# Altium footprint library 00SMD-R-C-L-Q.PCBLIB: 64 footprints (part 3 of 4)
Each footprint in its own frame and in the unit in brackets; x right, y up, seen from the top. Pads: shape width x height; smd on the part's side, far side on the other; paste and mask are expansions set on the pad; w line width, h text height; cw(c..) or ccw(c..) is an arc to the next point about the centre after c.
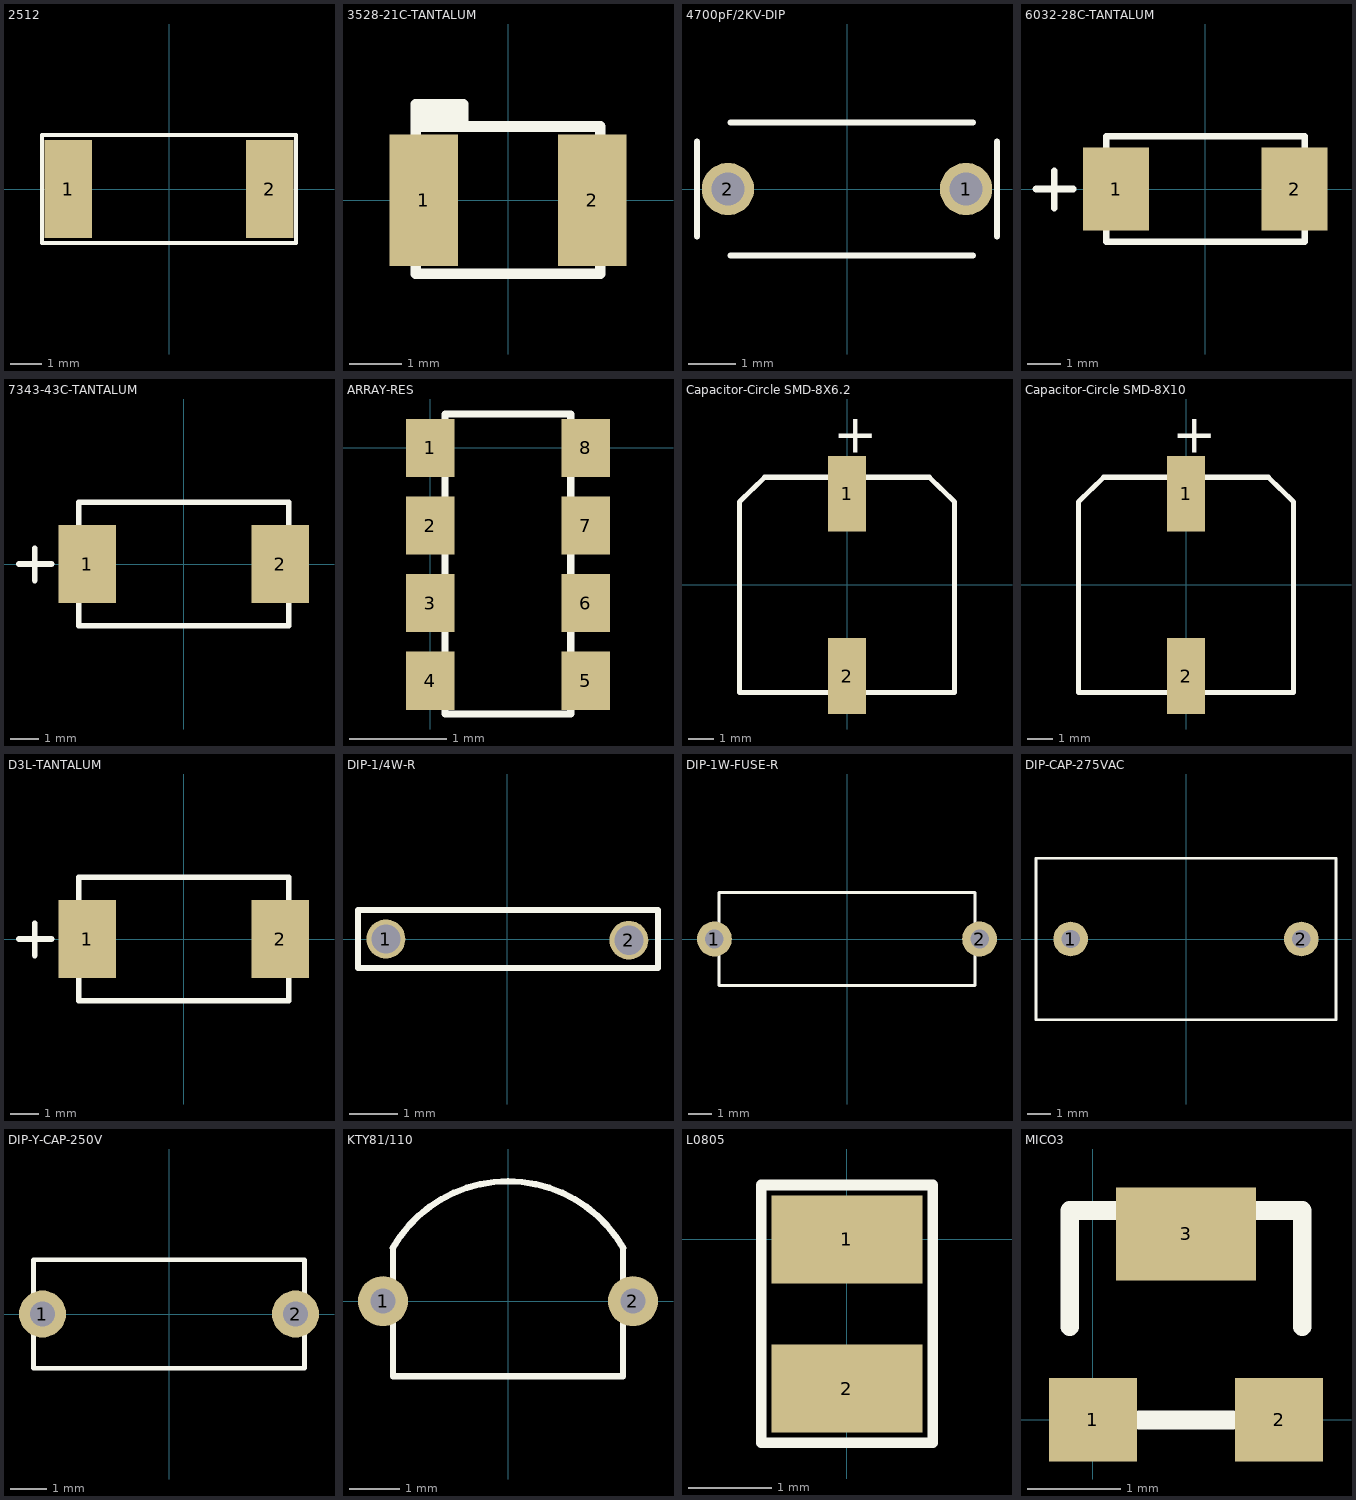
[diagram p2: the footprints below, top view; thin cyan lines are the x and y axes]

## 2512 [mm]
pads (2):
  rect 1.5x3.1 smd: 1(-3.175,0) 2(3.175,0)
TopOverlay:
  lines w0.127: -4,-1.7 4,-1.7 4,1.7 -4,1.7 -4,-1.7

## 3528-21C-TANTALUM [mm] "3528-21C-TANTALUM"
pads (2):
  rect 1.3x2.5 smd: 1(-1.6,0) 2(1.6,0)
TopOverlay:
  lines w0.2: -1.75,1.525 -0.85,1.525 ; -1.75,1.65 -0.85,1.65 ; -0.85,1.4 -0.85,1.825 -1.75,1.825 -1.75,1.4 ; -1.75,1.4 -1.75,-1.4 1.75,-1.4 1.75,1.4 -1.75,1.4

## 4700pF/2KV-DIP [mm] "4700pF/2KV-DIP"
pads (2):
  round 1.1 hole 0.7: 1(2.5,0) 2(-2.5,0)
TopOverlay:
  lines w0.127: -3.15,-1 -3.15,1 ; -2.45,-1.4 2.65,-1.4 ; -2.45,1.4 2.65,1.4 ; 3.15,-1 3.15,1

## 6032-28C-TANTALUM [mm] "6032-28C-TANTALUM"
pads (2):
  rect 2x2.5 smd: 1(-2.7,0) 2(2.7,0)
TopOverlay:
  lines w0.2: -5.125,0 -4,0 ; -4.575,-0.575 -4.575,0.55 ; -3,-1.6 -3,1.6 3,1.6 3,-1.6 -3,-1.6

## 7343-43C-TANTALUM [mm] "7343-43C-TANTALUM"
pads (2):
  rect 2x2.7 smd: 1(-3.35,0) 2(3.35,0)
TopOverlay:
  lines w0.2: -5.725,0 -4.6,0 ; -5.175,-0.575 -5.175,0.55 ; -3.65,-2.15 3.65,-2.15 3.65,2.15 -3.65,2.15 -3.65,-2.15

## ARRAY-RES [mm]
pads (8):
  rect 0.5x0.6 smd: 1(0,0) 2(0,-0.8) 3(0,-1.6) 4(0,-2.4) 5(1.6,-2.4) 6(1.6,-1.6) 7(1.6,-0.8) 8(1.6,0)
TopOverlay:
  lines w0.076: 0.15,-2.743 1.445,-2.743 1.445,0.35 0.15,0.35 0.15,-2.743

## Capacitor-Circle SMD-8X6.2 [mm] "Capacitor-Circle SMD-8x6.2"
pads (2):
  rect 1.5x3 smd: 1(0,3.6) 2(0,-3.6)
TopOverlay:
  lines w0.2: -4.25,-4.25 -4.25,3.275 -3.25,4.25 3.25,4.25 4.25,3.275 4.25,-4.25 -4.25,-4.25
  text "+" at -0.55,5.225 h1.52

## Capacitor-Circle SMD-8X10 [mm] "Capacitor-Circle SMD-8x10"
pads (2):
  rect 1.5x3 smd: 1(0,3.6) 2(0,-3.6)
TopOverlay:
  lines w0.2: -4.25,-4.25 -4.25,3.275 -3.25,4.25 3.25,4.25 4.25,3.275 4.25,-4.25 -4.25,-4.25
  text "+" at -0.55,5.225 h1.52

## D3L-TANTALUM [mm] "D3L-TANTALUM"
pads (2):
  rect 2x2.7 smd: 1(-3.35,0) 2(3.35,0)
TopOverlay:
  lines w0.2: -5.725,0 -4.6,0 ; -5.175,-0.575 -5.175,0.55 ; -3.65,-2.15 3.65,-2.15 3.65,2.15 -3.65,2.15 -3.65,-2.15

## DIP-1/4W-R [mm] "DIP-1/4W-R"
pads (2):
  round 0.8 hole 0.6: 1(-2.5,0) 2(2.5,-0.025)
TopOverlay:
  lines w0.127: -3.075,-0.6 -3.075,0.6 3.1,0.6 3.1,-0.6 -3.075,-0.6

## DIP-1W-FUSE-R [mm] "DIP-1W-FUSE-R"
pads (2):
  round 1.5 hole 0.8: 1(-5.7,0) 2(5.7,0)
TopOverlay:
  lines w0.127: -5.5,-2 -5.5,2 5.5,2 5.5,-2 -5.5,-2

## DIP-CAP-275VAC [mm] "DIP-CAP-275VAC"
pads (2):
  round 1.5 hole 0.8: 1(-5,0) 2(5,0)
TopOverlay:
  lines w0.127: -6.5,-3.5 -6.5,3.5 6.5,3.5 6.5,-3.5 -6.5,-3.5

## DIP-Y-CAP-250V [mm] "DIP-Y-CAP-250V"
pads (2):
  round 1.3 hole 0.7: 1(-3.5,0) 2(3.5,0)
TopOverlay:
  lines w0.127: -3.75,-1.5 -3.75,1.5 3.75,1.5 3.75,-1.5 -3.75,-1.5

## KTY81/110 [mm] "KTY81/110"
pads (2):
  round 1 hole 0.5: 1(-2.5,0) 2(2.5,0)
TopOverlay:
  lines w0.127: -2.305,1.064 cw(c0,-0.256) 0,2.4 cw(c0,-0.256) 2.305,1.064 ; -2.3,1.064 -2.3,-1.5 2.3,-1.5 2.3,1.064

## L0805 [mm]
pads (2):
  rect 1.8x1.05 smd: 1(0,0) 2(0,-1.78)
TopOverlay:
  lines w0.127: -1.025,-2.425 -1.025,0.65 1.025,0.65 1.025,-2.425 -1.025,-2.425

## MICO3 [mm]
pads (3):
  rect 0.95x0.9 smd: 1(0,0) 2(2,0)
  rect 1.5x1 smd: 3(1,2)
TopOverlay:
  lines w0.203: -0.25,1 -0.25,2 -0.25,2.25 0.25,2.25 ; 0.5,0 1.5,0 ; 1.75,2.25 2.25,2.25 2.25,1